# Altium schematic symbol library Kobiconn_Library.SchLib: 3 symbols
Pins are listed as number, name and electrical type; pins without a type are passive.

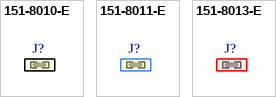
[diagram p0: symbols 151-8010-E to 151-8013-E]

## 151-8010-E
designator J?, comment Jumper  (value not drawn)
Headers & Wire Housings MINI JUMPER GF 6.0MM CLOSE TYPE BLACK; Manufacturer: Kobiconn; Manufacturer Part Number: 151-8010-E; Number of Positions: 2; Pitch: 2.54mm; Supplier 1: Mouser; Stock 1: 0; Contact Gender: Female; ComponentLink1URL: https://datasheet.ciiva.com/5160/kc-301174-5160826.pdf; ComponentLink1Description: https://datasheet.ciiva.com/5160/kc-301174-5160826.pdf
footprint Kobiconn 151-8010-E (Black)

## 151-8011-E
designator J?, comment Jumper  (value not drawn)
Headers & Wire Housings MINI JUMPER GF 6.0MM CLOSE TYPE BLUE; Manufacturer: Kobiconn; Manufacturer Part Number: 151-8011-E; Number of Positions: 2; Pitch: 2.54mm; Supplier 1: Mouser; Stock 1: 0; Contact Gender: Male; Package Quantity: 2000; ComponentLink1URL: https://datasheet.ciiva.com/5162/kc-301174-5162989.pdf; ComponentLink1Description: https://datasheet.ciiva.com/5162/kc-301174-5162989.pdf
footprint Kobiconn 151-8011-E (Blue)

## 151-8013-E
designator J?, comment Jumper  (value not drawn)
Headers & Wire Housings MINI JUMPER GF 6.0MM CLOSE TYPE RED; Manufacturer: Kobiconn; Manufacturer Part Number: 151-8013-E; Number of Positions: 2; Pitch: 2.54mm; Supplier 1: Mouser; Stock 1: 0; Contact Gender: Female; ComponentLink1URL: https://datasheet.ciiva.com/5162/kc-301174-5162985.pdf; ComponentLink1Description: https://datasheet.ciiva.com/5162/kc-301174-5162985.pdf
footprint Kobiconn 151-8013-E (Red)